# EAGLE library part HEADER_1X6 (library heck)
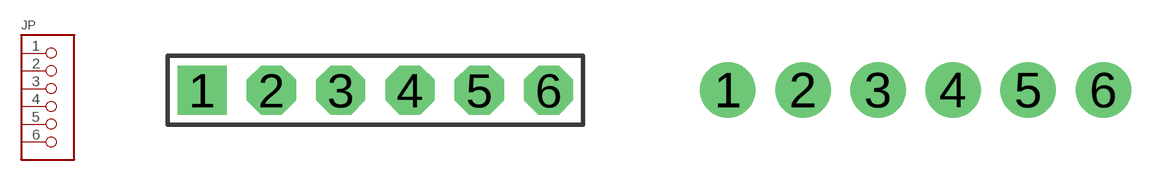
[diagram p30: symbol with the pads of HEADER_2MM_1X6; footprints HEADER_2MM_1X6, HEADER_100MIL_1X6]

Designator prefix JP

## HEADER_1X6_2MM  [HEADER_2MM_1X6]
1  1  pas
2  2  pas
3  3  pas
4  4  pas
5  5  pas
6  6  pas

## HEADER_1X6_100MIL  [HEADER_100MIL_1X6]
Pads as for HEADER_2MM_1X6

## HEADER_1X6_JST-PH-V  [JST-PH-6-PTH-VERT]
Pads as for HEADER_2MM_1X6

## Footprint HEADER_2MM_1X6 (pad centres in mm)
drill 0.8 pad 1.422 square: 1 -5,0
drill 0.8 pad 1.422 octagon: 2 -3,0; 3 -1,0; 4 1,0; 5 3,0; 6 5,0

## Footprint HEADER_100MIL_1X6 (pad centres in mm)
drill 1.016 pad 1.88: 1 -6.35,0; 2 -3.81,0; 3 -1.27,0; 4 1.27,0; 5 3.81,0; 6 6.35,0

## Footprint JST-PH-6-PTH-VERT (pad centres in mm)
drill 0.8 pad 1.422: 1 -4.99,0; 2 -2.99,0; 3 -0.99,0; 4 1.01,0; 5 3.01,0; 6 5.01,0